# Altium schematic symbol library CMA-4544PF-W.SchLib: 1 symbol
Pins are listed as number, name and electrical type; pins without a type are passive.

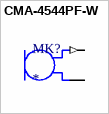
[diagram p0: symbol CMA-4544PF-W]

## CMA-4544PF-W
designator MK?
CMA Series 9.7 mm Electret Condenser Omni-Directional Pin Mount 3 V Microphone; MP: CMA-4544PF-W; Package: None; Availability: Unavailable; Value: *; Price: None
footprint MIC_CMA-4544PF-W
pins: 1 OUT (out), 2 GND (power)